# Altium footprint library hi3516dv100.PcbLib: 78 footprints (part 4 of 5)
Each footprint in its own frame and in the unit in brackets; x right, y up, seen from the top. Pads: shape width x height; smd on the part's side, far side on the other; paste and mask are expansions set on the pad; w line width, h text height; cw(c..) or ccw(c..) is an arc to the next point about the centre after c.
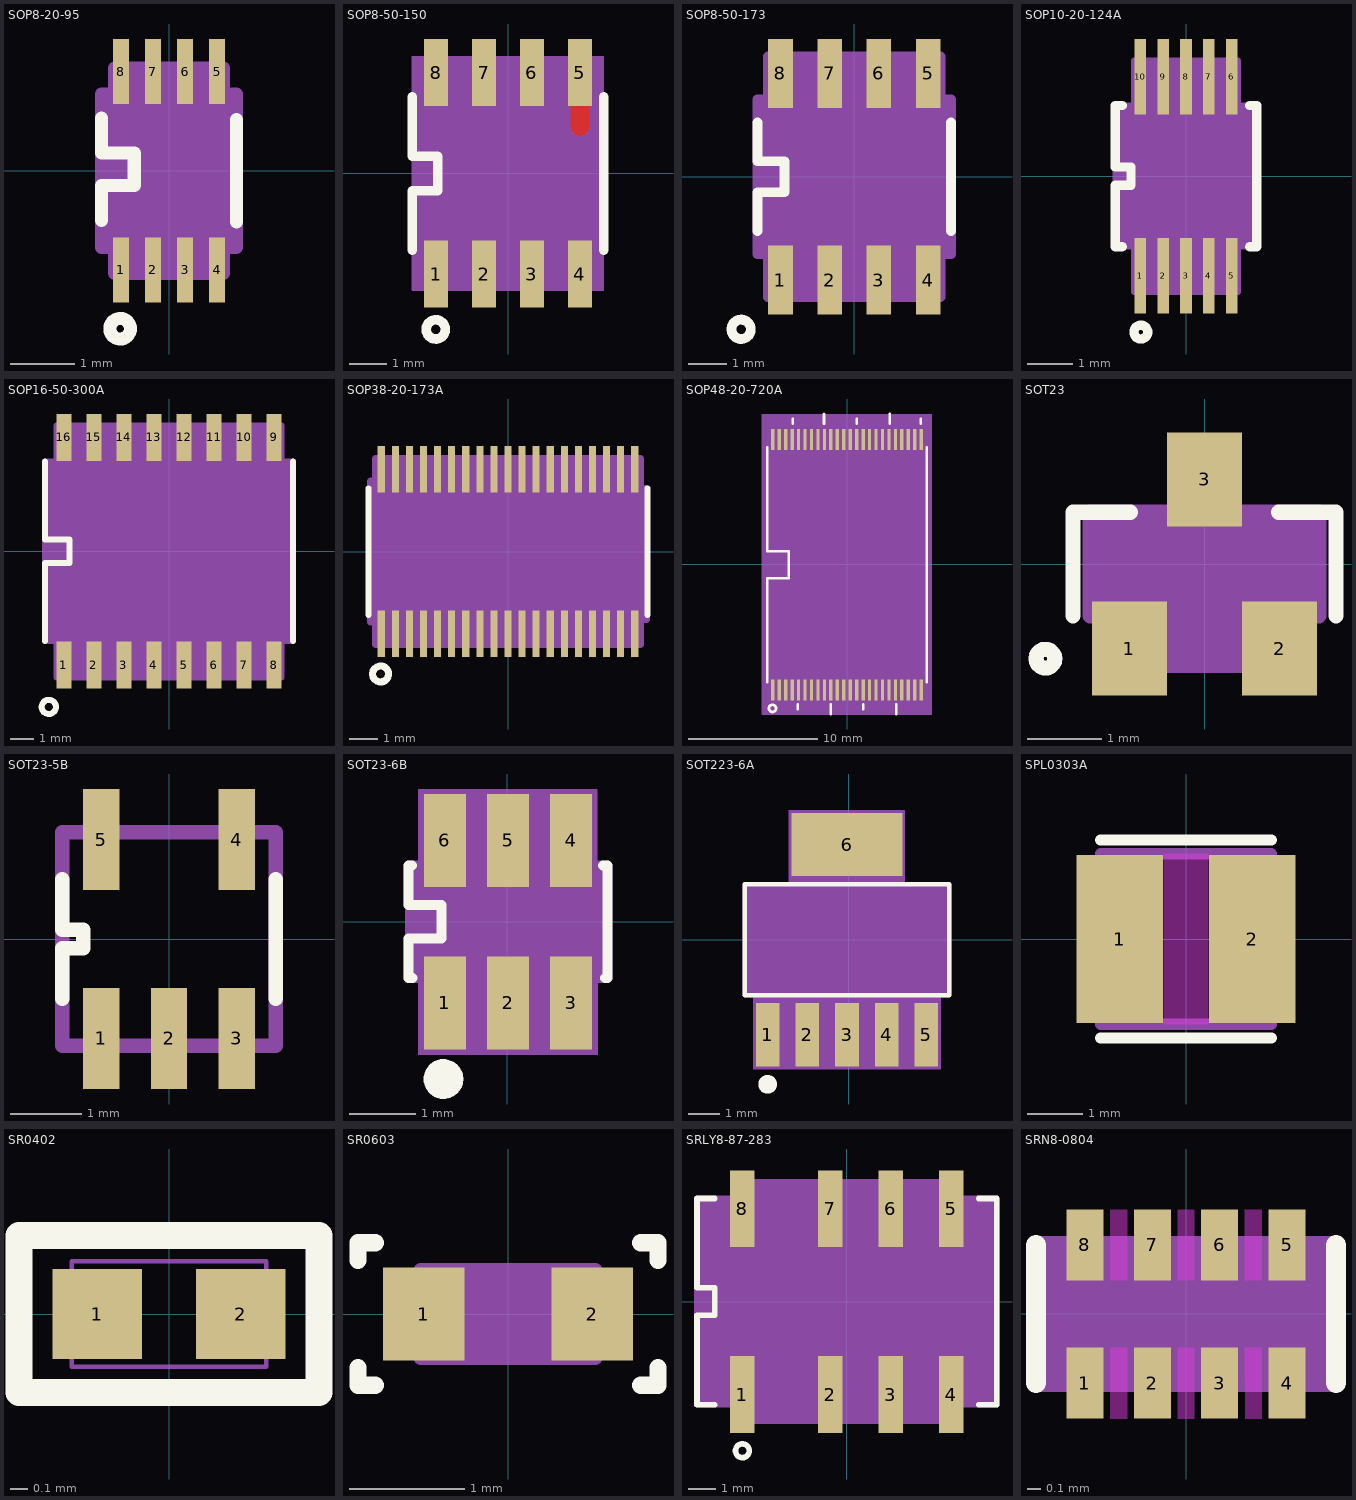
[diagram p3: the footprints below, top view; thin cyan lines are the x and y axes]

## SOP8-20-95 [mil] "SOP8-20-95"
pads (8):
  rect 10x40 smd: 1(-29.53,-60.91) 2(-9.84,-60.91) 3(9.84,-60.91) 4(29.53,-60.91) 5(29.53,60.91) 6(9.84,60.91) 7(-9.84,60.91) 8(-29.53,60.91)
Top Overlay:
  circle w8: c-30,-97 r6.32
  lines w8: -41.34,-30.5 -41.34,-9 -21.34,-9 -21.34,11 -41.34,11 -41.34,32.5 ; 41.34,-31.5 41.34,31.5
Mechanical 7:
  region: 33.46,62.99 33.46,47.24 41.34,47.24 41.34,-47.24 33.46,-47.24 33.46,-62.99 -33.46,-62.99 -33.46,-47.24 -41.34,-47.24 -41.34,47.24 -33.46,47.24 -33.46,62.99
  lines w8: -41.34,-47.24 -33.46,-47.24 -33.46,-62.99 33.46,-62.99 33.46,-47.24 41.34,-47.24 41.34,47.24 33.46,47.24 33.46,62.99 -33.46,62.99 -33.46,47.24 -41.34,47.24 -41.34,-47.24
3D body: height 150, standoff 0, extent -41.34,-62.99 41.34,62.99

## SOP8-50-150 [mil] "SOP8-50-150"
pads (8):
  rect 25x70 smd: 1(-75,-105) 2(-25,-105) 3(25,-105) 4(75,-105) 5(75,105) 6(25,105) 7(-25,105) 8(-75,105)
Top Layer:
  lines w20: 75,49 75,105
Top Overlay:
  circle w10: c-75.23,-162.68 r9.99
  lines w10: -100,-80 -100,-18 -73.09,-18 -73.09,18 -100,18 -100,80 ; 100,-80 100,80
Mechanical 7:
  region: -100,-122 100,-122 100,122 -100,122
  lines w1: -100,-122 100,-122 100,122 -100,122 -100,-122
Mechanical 15:
  dashed: -100,-122 100,-122 100,122 -100,122
3D body: height 150, standoff 0, extent -100,-122 100,122

## SOP8-50-173 [mil] "SOP8-50-173"
pads (8):
  rect 25x70 smd: 1(-75,-105) 2(-25,-105) 3(25,-105) 4(75,-105) 5(75,105) 6(25,105) 7(-25,105) 8(-75,105)
Top Overlay:
  circle w10: c-115,-155 r9.84
  lines w10: -98.43,-55.12 -98.43,-15.75 -70.87,-15.75 -70.87,15.75 -98.43,15.75 -98.43,55.12 ; 98.43,-55.12 98.43,55.12
Mechanical 7:
  region: 87.56,122.05 87.56,78.74 98.43,78.74 98.43,-78.74 87.56,-78.74 87.56,-122.05 -87.56,-122.05 -87.56,-78.74 -98.43,-78.74 -98.43,78.74 -87.56,78.74 -87.56,122.05
  lines w10: -98.43,-78.74 -98.43,78.74 -87.56,78.74 -87.56,122.05 87.56,122.05 87.56,78.74 98.43,78.74 98.43,-78.74 87.56,-78.74 87.56,-122.05 -87.56,-122.05 -87.56,-78.74 -98.43,-78.74
Mechanical 15:
  dashed: 88,123 -87,123 -87,79 -98,79 -98,-78 -87,-78 -87,-122 88,-122 88,-78 99,-78 99,79 88,79
3D body: height 150, standoff 0, extent -98.43,-122.05 98.43,122.05

## SOP10-20-124A [mil] "SOP10-20-124A"
pads (10):
  rect 10x65 smd: 1(-39.37,-86) 2(-19.69,-86) 3(0,-86) 4(19.69,-86) 5(39.37,-86) 6(39.37,86) 7(19.69,86) 8(0,86) 9(-19.69,86) 10(-39.37,86)
Top Overlay:
  circle w8: c-39.02,-134.65 r5.97
  lines w8: -55.12,-61.02 -61.02,-61.02 -61.02,-7.87 -47.44,-7.87 -47.44,7.87 -61.02,7.87 -61.02,61.02 -55.12,61.02 ; 55.12,-61.02 61.02,-61.02 61.02,61.02 55.12,61.02
Mechanical 7:
  region: 61.02,61.02 61.02,-61.02 45,-61.02 45,-100 -45,-100 -45,-61.02 -61.02,-61.02 -61.02,61.02 -45,61.02 -45,100 45,100 45,61.02
  lines w5: -61.02,-61.02 -45,-61.02 -45,-100 45,-100 45,-61.02 61.02,-61.02 61.02,61.02 45,61.02 45,100 -45,100 -45,61.02 -61.02,61.02 -61.02,-61.02
Mechanical 15:
  dashed: 62,62 45,62 45,100 -45,100 -45,62 -61,62 -61,-61 -45,-61 -45,-100 45,-100 45,-61 62,-61
3D body: height 150, standoff 0, extent -61.02,-100 61.02,100

## SOP16-50-300A [mil] "SOP16-50-300A"
pads (16):
  rect 25x78 smd: 1(-175,-189.47) 2(-125,-189.47) 3(-75,-189.47) 4(-25,-189.47) 5(25,-189.47) 6(75,-189.47) 7(125,-189.47) 8(175,-189.47) 9(175,189.47) 10(125,189.47) 11(75,189.47) 12(25,189.47) 13(-25,189.47) 14(-75,189.47) 15(-125,189.47) 16(-175,189.47)
Top Overlay:
  circle w10: c-200,-258.94 r11.81
  lines w10: -206.69,-149.61 -206.69,-19.69 -165.35,-19.69 -165.35,19.69 -206.69,19.69 -206.69,149.61 ; 206.69,-149.61 206.69,149.61
Mechanical 7:
  region: 187.52,209.65 187.52,149.61 206.69,149.61 206.69,-149.61 187.52,-149.61 187.52,-209.65 -187.52,-209.65 -187.52,-149.61 -206.69,-149.61 -206.69,149.61 -187.52,149.61 -187.52,209.65
  lines w10: -206.69,-149.61 -187.52,-149.61 -187.52,-209.65 187.52,-209.65 187.52,-149.61 206.69,-149.61 206.69,149.61 187.52,149.61 187.52,209.65 -187.52,209.65 -187.52,149.61 -206.69,149.61 -206.69,-149.61
3D body: height 150, standoff 0, extent -206.69,-209.65 206.69,209.65

## SOP38-20-173A [mil] "SOP38-20-173A"
pads (38):
  rect 10x65 smd: 1(-177.79,-115) 2(-158.1,-115) 3(-138.42,-115) 4(-118.73,-115) 5(-99.05,-115) 6(-79.36,-115) 7(-59.68,-115) 8(-39.99,-115) 9(-20.31,-115) 10(-0.62,-115) 11(19.07,-115) 12(38.75,-115) 13(58.44,-115) 14(78.12,-115) 15(97.81,-115) 16(117.49,-115) 17(137.18,-115) 18(156.86,-115) 19(176.55,-115) 20(176.55,115) 21(156.86,115) 22(137.18,115) 23(117.49,115) 24(97.81,115) 25(78.12,115) 26(58.44,115) 27(38.75,115) 28(19.07,115) 29(-0.62,115) 30(-20.31,115) 31(-39.99,115) 32(-59.68,115) 33(-79.36,115) 34(-99.05,115) 35(-118.73,115) 36(-138.42,115) 37(-158.1,115) 38(-177.79,115)
Top Overlay:
  circle w10: c-178.7,-171.15 r11.18
  lines w8: -195.62,-88.58 -195.62,88.58 ; 194.38,-88.58 194.38,88.58
Mechanical 7:
  region: 184.38,129.92 184.38,87.85 193.01,87.85 193.01,-94.7 184.38,-94.7 184.38,-129.92 -185.62,-129.92 -185.62,-98.19 -193.01,-98.19 -193.01,98.31 -185.62,98.31 -185.62,129.92
  lines w10: -193.01,-98.19 -185.62,-98.19 -185.62,-129.92 184.38,-129.92 184.38,-94.7 193.01,-94.7 193.01,87.85 184.38,87.85 184.38,129.92 -185.62,129.92 -185.62,98.31 -193.01,98.31 -193.01,-98.19
3D body: height 150, standoff 0, extent -193.01,-129.92 193.01,129.92

## SOP48-20-720A [mil] "SOP48-20-720A"
pads (48):
  rect 10x65 smd: 1(-226.38,-384.5) 2(-206.69,-384.5) 3(-187.01,-384.5) 4(-167.32,-384.5) 5(-147.64,-384.5) 6(-127.95,-384.5) 7(-108.27,-384.5) 8(-88.58,-384.5) 9(-68.9,-384.5) 10(-49.21,-384.5) 11(-29.53,-384.5) 12(-9.84,-384.5) 13(9.84,-384.5) 14(29.53,-384.5) 15(49.21,-384.5) 16(68.9,-384.5) 17(88.58,-384.5) 18(108.27,-384.5) 19(127.95,-384.5) 20(147.64,-384.5) 21(167.32,-384.5) 22(187.01,-384.5) 23(206.69,-384.5) 24(226.38,-384.5) 25(226.38,379.5) 26(206.69,379.5) 27(187.01,379.5) 28(167.32,379.5) 29(147.64,379.5) 30(127.95,379.5) 31(108.27,379.5) 32(88.58,379.5) 33(68.9,379.5) 34(49.21,379.5) 35(29.53,379.5) 36(9.84,379.5) 37(-9.84,379.5) 38(-29.53,379.5) 39(-49.21,379.5) 40(-68.9,379.5) 41(-88.58,379.5) 42(-108.27,379.5) 43(-127.95,379.5) 44(-147.64,379.5) 45(-167.32,379.5) 46(-187.01,379.5) 47(-206.69,379.5) 48(-226.38,379.5)
Top Overlay:
  circle w8: c-227.26,-440.38 r10.93
  lines w8: -243.16,-360.77 -243.16,-43.5 -178,-43.5 -178,38.5 -243.16,38.5 -243.16,355.77 ; -165,427.5 -165,442.5 ; -150,-442.5 -150,-427.5 ; -70,427.5 -70,457.5 ; -50,-457.5 -50,-427.5 ; 30,427.5 30,442.5 ; 50,-442.5 50,-427.5 ; 130,427.5 130,457.5 ; 150,-457.5 150,-427.5 ; 225,427.5 225,442.5 ; 243.16,-360.77 243.16,355.77
Mechanical 7:
  region: -258.88,-457.5 258.88,-457.5 258.88,457.5 -258.88,457.5
Mechanical 16:
  lines w1: -258.88,-457.5 258.88,-457.5 258.88,457.5 -258.88,457.5 -258.88,-457.5
3D body: height 150, standoff 0, extent -258.88,-457.5 258.88,457.5

## SOT23 [mil] "SOT23"
pads (3):
  rect 40x50 smd: 1(-40,-45) 2(40,-45) 3(0,45)
Top Overlay:
  circle w8: c-84.76,-50.43 r5
  lines w8: -70,-27.56 -70,27.56 -39.37,27.56 ; 39.37,27.56 70,27.56 70,-27.56
Mechanical 7:
  region: 11.81,54.13 11.81,27.56 61.02,27.56 61.02,-27.56 49.21,-27.56 49.21,-54.13 -49.21,-54.13 -49.21,-27.56 -61.02,-27.56 -61.02,27.56 -11.81,27.56 -11.81,54.13
  lines w8: -61.02,-27.56 -49.21,-27.56 -49.21,-54.13 49.21,-54.13 49.21,-27.56 61.02,-27.56 61.02,27.56 11.81,27.56 11.81,54.13 -11.81,54.13 -11.81,27.56 -61.02,27.56 -61.02,-27.56
Mechanical 15:
  dashed: 11.81,54.13 11.81,27.56 61.02,27.56 61.02,-27.56 49.21,-27.56 49.21,-54.13 -49.21,-54.13 -49.21,-27.56 -61.02,-27.56 -61.02,27.56 -11.81,27.56 -11.81,54.13
3D body: height 150, standoff 0, extent -61.02,-54.13 61.02,54.13

## SOT23-5B [mil] "SOT23-5B"
pads (5):
  rect 20x56 smd: 1(-37.5,-55) 2(0,-55) 3(37.5,-55) 4(37.5,55) 5(-37.5,55)
Top Overlay:
  lines w8: -59,-33 -59,-5 -47.5,-5 -47.5,5 -59,5 -59,33 ; 59,-33 59,33
Mechanical 7:
  lines w1: -59,-59 59,-59 59,59 -59,59 -59,-59
  lines w8: -59,-59 -59,59 59,59 59,-59 -59,-59
Mechanical 15:
  lines w1: -59,-59 59,-59 59,59 -59,59 -59,-59

## SOT23-6B [mil] "SOT23-6B"
pads (6):
  rect 25x55 smd: 1(-36.81,-48.19) 2(0.59,-48.19) 3(37.99,-48.19) 4(37.99,48.27) 5(0.59,48.27) 6(-36.81,48.27)
Top Overlay:
  circle w11.81: c-37.71,-93.33 r5.9
  lines w6: -56.28,33.5 -58.47,33.5 -58.47,9.88 -38.78,9.88 -38.78,-9.8 -58.47,-9.8 -58.47,-33.42 -56.13,-33.42 ; 56.88,33.5 59.65,33.5 59.65,-33.42 58.2,-33.42
Mechanical 8:
  region: 55.85,33.9 60.43,33.9 60.43,-33.03 53.74,-33.03 53.74,-75.55 53.74,-77.52 53.74,-78.8 -52.56,-78.8 -52.56,-59.64 -52.56,-35.79 -53.74,-35.79 -60.43,-35.79 -60.43,32.72 -52.56,32.72 -52.56,77.6 -52.56,78.81 53.6,78.81 53.6,33.9
Mechanical 18:
  lines w6: -58.47,-33.42 59.65,-33.42 59.65,33.5 -58.47,33.5 -58.47,9.88 -38.78,9.88 -38.78,-9.8 -58.47,-9.8 -58.47,-33.42
3D body: height 150, standoff 0, extent -60.43,-78.8 60.43,78.81

## SOT223-6A [mil] "SOT223-6A"
pads (6):
  rect 30x80 smd: 1(-101.97,-120.08) 2(-51.97,-120.08) 3(-1.97,-120.08) 4(48.03,-120.08) 5(98.03,-120.08)
  rect 140x80 smd: 6(-1.97,120.08)
Top Overlay:
  circle w11.81: c-102.05,-182.35 r5.9
  lines w6: -130.91,-69.88 126.96,-69.88 126.96,69.88 -130.91,69.88 -130.91,-69.88
Mechanical 7:
  region: 70.96,163.29 70.96,68.7 127.95,68.7 127.95,-68.21 116.04,-68.21 116.04,-163.29 -120.18,-163.29 -120.18,-68.9 -127.95,-68.9 -127.95,70.08 -75.4,70.08 -75.4,163.29
Mechanical 13:
  lines w6: -130.91,-69.88 126.96,-69.88 126.96,69.88 -130.91,69.88 -130.91,-69.88
3D body: height 150, standoff 0, extent -127.95,-163.29 127.95,163.29

## SPL0303A [mil] "SPL0303A"
pads (2):
  rect 62x120 smd: 1(-47.28,0) 2(47.28,0)
Top Layer keep-out:
  region: -15.75,-61.02 15.75,-61.02 15.75,61.02 -15.75,61.02
Top Overlay:
  lines w8: -61.02,-70.87 61.02,-70.87 ; -61.02,70.87 61.02,70.87
Mechanical 7:
  lines w1: -61.02,-61.02 61.02,-61.02 61.02,61.02 -61.02,61.02 -61.02,-61.02
  lines w8: -61.02,-61.02 61.02,-61.02 61.02,61.02 -61.02,61.02 -61.02,-61.02
Mechanical 15:
  lines w1: -61,-61 62,-61 62,62 -61,62 -61,-61

## SR0402 [mil] "SR0402"
pads (2):
  rect 20x20 smd: 1(-16,0) 2(16,0)
Top Overlay:
  lines w6: -33.5,-17.5 33.5,-17.5 33.5,17.5 -33.5,17.5 -33.5,-17.5
Top Paste:
  dashed: 6,-10 26,-10 26,10 6,10 9,0
  dashed: -26,-10 -6,-10 -9,0 -6,10 -26,10
Mechanical 8:
  lines w1: -21.7,-11.8 21.7,-11.8 21.7,11.8 -21.7,11.8 -21.7,-11.8

## SR0603 [mil] "SR0603"
pads (2):
  rect 28x32 smd: 1(-29,0) 2(29,0)
Top Overlay:
  lines w6: -51.5,-18.5 -51.5,-24.5 -45.5,-24.5 ; -51.5,18.5 -51.5,24.5 -45.5,24.5 ; 45.5,-24.5 51.5,-24.5 51.5,-18.5 ; 45.5,24.5 51.5,24.5 51.5,18.5
Mechanical 8:
  region: -30,-15 -30,15 30,15 30,-15
  lines w5: -30,-15 -30,15 30,15 30,-15 -30,-15
3D body: height 150, standoff 0, extent -30,-15 30,15

## SRLY8-87-283 [mil] "SRLY8-87-283"
pads (8):
  rect 35x110 smd: 1(-149.61,-133) 2(-23.62,-133) 3(62.99,-133) 4(149.61,-133) 5(149.61,133) 6(62.99,133) 7(-23.62,133) 8(-149.61,133)
Top Overlay:
  circle w8: c-149.61,-213.54 r9.85
  lines w8: -188.98,-147.64 -214.57,-147.64 -214.57,-19.69 -188.98,-19.69 -188.98,19.69 -214.57,19.69 -214.57,147.64 -188.98,147.64 ; 188.98,-147.64 214.57,-147.64 214.57,147.64 188.98,147.64
Mechanical 7:
  region: 214.57,147.64 214.57,-147.64 161.42,-147.64 161.42,-171.26 -161.42,-171.26 -161.42,-147.64 -214.57,-147.64 -214.57,147.64 -161.42,147.64 -161.42,171.26 161.42,171.26 161.42,147.64
  lines w8: -214.57,-147.64 -161.42,-147.64 -161.42,-171.26 161.42,-171.26 161.42,-147.64 214.57,-147.64 214.57,147.64 161.42,147.64 161.42,171.26 -161.42,171.26 -161.42,147.64 -214.57,147.64 -214.57,-147.64
Mechanical 15:
  dashed: 215,148 162,148 162,172 -161,172 -161,148 -214,148 -214,-147 -161,-147 -161,-171 162,-171 162,-147 215,-147
3D body: height 150, standoff 0, extent -214.57,-171.26 214.57,171.26

## SRN8-0804 [mil] "SRN8-0804"
pads (8):
  rect 11x21 smd: 1(-30.01,-20.51) 2(-10.01,-20.51) 3(9.99,-20.51) 4(29.99,-20.51) 5(29.99,20.49) 6(9.99,20.49) 7(-10.01,20.49) 8(-30.01,20.49)
Top Layer keep-out:
  region: -22.51,30.99 -22.51,9.99 -17.51,9.99 -17.51,30.99
  region: -2.51,30.99 -2.51,9.99 2.49,9.99 2.49,30.99
  region: 17.49,31 17.49,10 22.49,9.99 22.49,30.99
  region: -22.51,-10.01 -22.51,-31.01 -17.51,-31.01 -17.51,-10.01
  region: 17.49,-10.01 17.5,-31.01 22.49,-31.01 22.49,-10.01
  region: -2.51,-10.01 -2.51,-31.01 2.49,-31.01 2.49,-10.01
Top Overlay:
  lines w6: -44.51,-20.51 -44.51,20.49 ; 44.49,-20.51 44.49,20.49
Mechanical 8:
  region: -44.01,-23 -44.01,23 43.99,22.99 44,-23
Mechanical 19:
  dashed: -44.01,-23 -44.01,23 43.99,22.99 44,-23
3D body: height 150, standoff 0, extent -44.01,-23 44,23